# EAGLE library part MSD-4-A (library 000_VansAircraft)
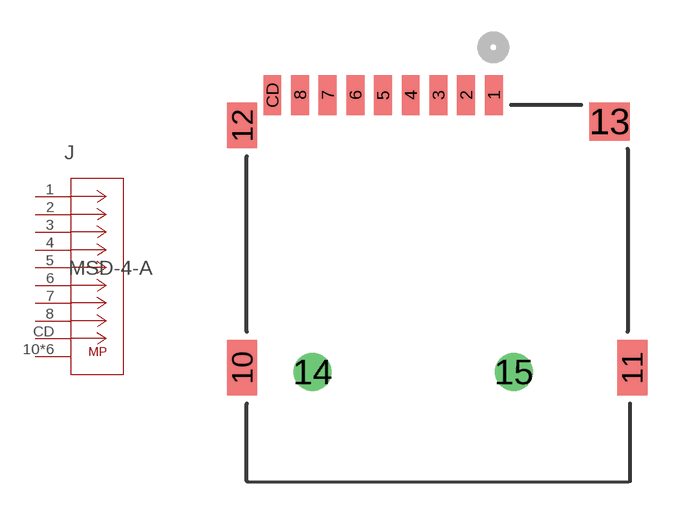
[diagram p0: symbol with the pads of CONN9_MSD-4-A_SSD; footprint CONN9_MSD-4-A_SSD]

Designator prefix J

## MSD-4-A (COPYRIGHT: Copyright (C) 2025 Ultra Librarian. All rights reserved.; MANUFACTURER_NAME: Same Sky; MANUFACTURER_PART_NUMBER: MSD-4-A)  [CONN9_MSD-4-A_SSD]
1  DAT2
2  CD/DAT3
3  CMD  pas
4  VDD  pwr
5  CLK  in
6  VSS  pas
7  DAT0
8  DAT1
10  MP  pas
11  MP  pas
12  MP  pas
13  MP  pas
14  MP  pas
15  MP  pas
CD  CD  pas

## Footprint CONN9_MSD-4-A_SSD (pad centres in mm)
smd 0.711 x 1.6: 1 2.25,7.752; 2 1.15,7.752; 3 0.05,7.752; 4 -1.05,7.752; 5 -2.15,7.752; 6 -3.25,7.752; 7 -4.35,7.752; 8 -5.45,7.752; CD -6.55,7.752
smd 1.194 x 2.21: 10 -7.75,-3.077; 11 7.75,-3.077
smd 1.194 x 1.8: 12 -7.747,6.55
smd 1.6 x 1.499: 13 6.85,6.701
drill 0.991 pad 0.991: 14 -4.953,-3.251; 15 3.048,-3.251